# Altium integrated library Res-SMD_V2.IntLib: 2369 symbols (part 5 of 18)
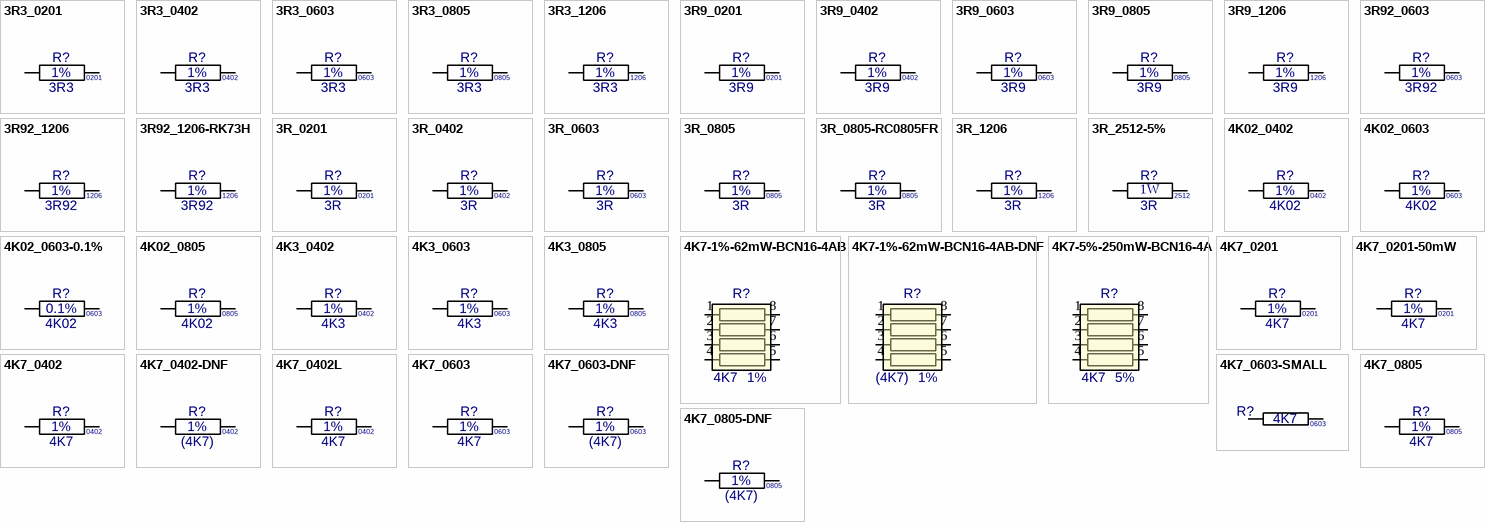
[diagram p63: symbols 3R3_0201 to 4K7_0805-DNF]

## 3R_0603
designator R?, comment value 3R  Tol: 1%  Text1: 0603  (hidden comment: 3R_R0603_1%)
Resistor Chip SMD; Manufacturer: Various; Part Number: 3R 0603 1%; Watt: 100mW; Package: RESC0603X60N; EDM-PN: *; Text2: *; Reutech PN: *; SAAB PN: *; DCE Part No: *
footprint RESC0603X60N (Chip Resistor, 0603, 2-Leads, Body 1.6x0.8mm, IPC Medium Density)
pins: 1, 2

## 3R_0805
designator R?, comment value 3R  Tol: 1%  Text1: 0805  (hidden comment: 3R_R0805_1%)
Resistor Chip SMD; Manufacturer: Various; Part Number: 3R 0805 1%; Watt: 125mW; Package: RESC0805X65N; EDM-PN: *; Text2: *; Reutech PN: *; SAAB PN: *; DCE Part No: *
footprint RESC0805X65N (Chip Resistor, 0805, 2-Leads, Body 2.0x1.3mm, IPC Medium Density)
pins: 1, 2

## 3R_0805-RC0805FR
designator R?, comment value 3R  Tol: 1%  Text1: 0805  (hidden comment: 3R_R0805_1%)
Resistor Chip Moisture Resistant Thick Film; Manufacturer: Yageo; Part Number: RC0805FR-073RL; Watt: 125mW; Package: RESC0805X65N; EDM-PN: *; Text2: *; Reutech PN: *; SAAB PN: *; DCE Part No: *
footprint RESC0805X65N (Chip Resistor, 0805, 2-Leads, Body 2.0x1.3mm, IPC Medium Density)
pins: 1, 2

## 3R_1206
designator R?, comment value 3R  Tol: 1%  Text1: 1206  (hidden comment: 3R_R1206_1%)
Resistor Chip SMD; Manufacturer: Various; Part Number: 3R 1206 1%; Watt: 250mW; Reutech PN: 5905-CR-8033; Package: RESC1206X71N; EDM-PN: *; Text2: *; SAAB PN: *; DCE Part No: *
footprint RESC1206X71N (Chip Resistor, 1206, 2-Leads, Body 3.2x1.6mm, IPC Medium Density)
pins: 1, 2

## 3R_2512-5%
designator R?, comment value 3R  Watt: 1W  Text1: 2512  (hidden comment: 3R_R2512_5%)
Resistor Chip SMD; Manufacturer: Various; Part Number: 3R 2512 5%; Tol: 5%; Package: RESC2512X71N; EDM-PN: *; Text2: *; Reutech PN: 5905-91-9003; SAAB PN: *; DCE Part No: *
footprint RESC2512X71N (Chip Resistor, 2512, 2-Leads, Body 6.3x3.2mm, IPC Medium Density)
pins: 1, 2

## 4K02_0402
designator R?, comment value 4K02  Tol: 1%  Text1: 0402  (hidden comment: 4K02_R0402_1%)
Resistor Chip SMD; Manufacturer: Various; Part Number: 4K02 0402 1%; Watt: 63mW; Package: RESC0402X40N; EDM-PN: *; Text2: *; Reutech PN: *; SAAB PN: *; DCE Part No: *
footprint RESC0402X40N (Chip Resistor, 0402, 2-Leads, Body 1.1x0.5mm, IPC Medium Density)
pins: 1, 2

## 4K02_0603
designator R?, comment value 4K02  Tol: 1%  Text1: 0603  (hidden comment: 4K02_R0603_1%)
Resistor Chip SMD; Manufacturer: Various; Part Number: 4K02 0603 1%; Watt: 100mW; Package: RESC0603X60N; EDM-PN: *; Text2: *; Reutech PN: *; SAAB PN: *; DCE Part No: *
footprint RESC0603X60N (Chip Resistor, 0603, 2-Leads, Body 1.6x0.8mm, IPC Medium Density)
pins: 1, 2

## 4K02_0603-0.1%
designator R?, comment value 4K02  Tol: 0.1%  Text1: 0603  (hidden comment: 4K02_R0603_0.1%)
Resistor Chip SMD; Manufacturer: Various; Part Number: 4K02 0603 0.1%; Watt: 125mW; Reutech PN: 5905-CR-0009; Package: RESC0603X60N; EDM-PN: *; Text2: *; SAAB PN: *; DCE Part No: *
footprint RESC0603X60N (Chip Resistor, 0603, 2-Leads, Body 1.6x0.8mm, IPC Medium Density)
pins: 1, 2

## 4K02_0805
designator R?, comment value 4K02  Tol: 1%  Text1: 0805  (hidden comment: 4K02_R0805_1%)
Resistor Chip SMD; Manufacturer: Various; Part Number: 4K02 0805 1%; Watt: 125mW; Package: RESC0805X65N; EDM-PN: *; Text2: *; Reutech PN: *; SAAB PN: *; DCE Part No: *
footprint RESC0805X65N (Chip Resistor, 0805, 2-Leads, Body 2.0x1.3mm, IPC Medium Density)
pins: 1, 2

## 4K3_0402
designator R?, comment value 4K3  Tol: 1%  Text1: 0402  (hidden comment: 4K3_R0402_1%)
Resistor Chip SMD; Manufacturer: Various; Part Number: 4K3 0402 1%; Watt: 63mW; Package: RESC0402X40N; EDM-PN: *; Text2: *; Reutech PN: *; SAAB PN: *; DCE Part No: *
footprint RESC0402X40N (Chip Resistor, 0402, 2-Leads, Body 1.1x0.5mm, IPC Medium Density)
pins: 1, 2

## 4K3_0603
designator R?, comment value 4K3  Tol: 1%  Text1: 0603  (hidden comment: 4K3_R0603_1%)
Resistor Chip SMD; Manufacturer: Various; Part Number: 4K3 0603 1%; Watt: 100mW; Package: RESC0603X60N; EDM-PN: *; Text2: *; Reutech PN: 5905-93-4301; SAAB PN: *; DCE Part No: *
footprint RESC0603X60N (Chip Resistor, 0603, 2-Leads, Body 1.6x0.8mm, IPC Medium Density)
pins: 1, 2

## 4K3_0805
designator R?, comment value 4K3  Tol: 1%  Text1: 0805  (hidden comment: 4K3_R0805_1%)
Resistor Chip SMD; Manufacturer: Various; Part Number: 4K3 0805 1%; Watt: 125mW; Package: RESC0805X65N; EDM-PN: *; Text2: *; Reutech PN: *; SAAB PN: *; DCE Part No: *
footprint RESC0805X65N (Chip Resistor, 0805, 2-Leads, Body 2.0x1.3mm, IPC Medium Density)
pins: 1, 2

## 4K7-1%-62mW-BCN16-4AB
designator R?, comment value 4K7  Tol: 1%  (hidden comment: 4K7-1%-62mW-BCN16-4AB-H)
Resistor Chip Array; Manufacturer: Bi Tech; Part Number: BCN164ABI-472F; Watt: 62mW; Package: BCN16-4AB; EDM-PN: *; Text2: *; Text1: *; Reutech PN: *; SAAB PN: *; DCE Part No: *
footprint BCN16-4AB (BCN 16 4 AB 1.6x3.2mm)
pins: 1, 2, 3, 4, 5, 6, 7, 8

## 4K7-1%-62mW-BCN16-4AB-DNF
designator R?, comment value (4K7)  Tol: 1%  (hidden comment: 4K7-1%-62mW-BCN16-4AB-H-DNF)
Resistor Chip Array - Do not Fit; Manufacturer: Bi Tech; Part Number: DNF - BCN164ABI-472F; Watt: 62mW; Package: BCN16-4AB; EDM-PN: *; Text2: *; Text1: *; Reutech PN: *; SAAB PN: *; DCE Part No: *
footprint BCN16-4AB (BCN 16 4 AB 1.6x3.2mm)
pins: 1, 2, 3, 4, 5, 6, 7, 8

## 4K7-5%-250mW-BCN16-4A
designator R?, comment value 4K7  Tol: 5%  (hidden comment: BCN164A472J7)
Resistor Chip Array; Manufacturer: Bi Tech; Watt: 250mW; Part Number: BCN164A472J7; Package: BCN16-4A; EDM-PN: *; Text2: *; Text1: *; Reutech PN: *; SAAB PN: *; DCE Part No: *
footprint BCN16-4A (Res Network 1.6x3.2mm)
pins: 1, 2, 3, 4, 5, 6, 7, 8

## 4K7_0201
designator R?, comment value 4K7  Tol: 1%  Text1: 0201  (hidden comment: 4K7_R0201_1%)
Resistor Chip SMD; Manufacturer: Various; Part Number: 4K7 0201 1%; Watt: 31mW; Package: RESC0201X33N; EDM-PN: *; Text2: *; Reutech PN: *; SAAB PN: *; DCE Part No: *
footprint RESC0201X33N (Chip Resistor, 0201, 2-Leads, Body 0.6x0.3mm, IPC Medium Density)
pins: 1, 2

## 4K7_0201-50mW
designator R?, comment value 4K7  Tol: 1%  Text1: 0201  (hidden comment: 4K7_R0201_1% 50mW)
Resistor Chip SMD; Manufacturer: Various; Part Number: 4K7 0201 1% 50mW; Watt: 50mW; Package: RESC0201X33N; EDM-PN: *; Text2: *; Reutech PN: *; SAAB PN: *; DCE Part No: *
footprint RESC0201X33N (Chip Resistor, 0201, 2-Leads, Body 0.6x0.3mm, IPC Medium Density)
pins: 1, 2

## 4K7_0402
designator R?, comment value 4K7  Tol: 1%  Text1: 0402  (hidden comment: 4K7_R0402_1%)
Resistor Chip SMD; Manufacturer: Various; Part Number: 4K7 0402 1%; DCE Part No: 7401; Watt: 63mW; EDM-PN: RES662; Package: RESC0402X40N; Text2: *; Reutech PN: 5905-92-4701; SAAB PN: *
footprint RESC0402X40N (Chip Resistor, 0402, 2-Leads, Body 1.1x0.5mm, IPC Medium Density)
pins: 1, 2

## 4K7_0402-DNF
designator R?, comment value (4K7)  Tol: 1%  Text1: 0402  (hidden comment: 4K7_R0402_1%-DNF)
Resistor Chip SMD - Do not Fit; Manufacturer: Various; Part Number: DNF - 4K7 0402 1%; Watt: 63mW; EDM-PN: RES662; Package: RESC0402X40N; Text2: *; Reutech PN: 5905-92-4701; SAAB PN: *; DCE Part No: *
footprint RESC0402X40N (Chip Resistor, 0402, 2-Leads, Body 1.1x0.5mm, IPC Medium Density)
pins: 1, 2

## 4K7_0402L
designator R?, comment value 4K7  Tol: 1%  Text1: 0402  (hidden comment: 4K7_R0402_1%)
Resistor Chip SMD; Manufacturer: Various; Part Number: 4K7 0402 1%; DCE Part No: 7401; Watt: 63mW; EDM-PN: RES662; Package: RESC0402X40L; Text2: *; Reutech PN: 5905-92-4701; SAAB PN: *
footprint RESC0402X40L (Chip Resistor, 0402, 2-Leads, Body 1.1x0.5mm, IPC High Density)
pins: 1, 2

## 4K7_0603
designator R?, comment value 4K7  Tol: 1%  Text1: 0603  (hidden comment: 4K7_R0603_1%)
Resistor Chip SMD; Manufacturer: Various; Part Number: 4K7 0603 1%; Watt: 100mW; EDM-PN: RES129; Package: RESC0603X60N; Text2: *; Reutech PN: 5905-93-4701; SAAB PN: *; DCE Part No: *
footprint RESC0603X60N (Chip Resistor, 0603, 2-Leads, Body 1.6x0.8mm, IPC Medium Density)
pins: 1, 2

## 4K7_0603-DNF
designator R?, comment value (4K7)  Tol: 1%  Text1: 0603  (hidden comment: 4K7_R0603_1%-DNF)
Resistor Chip SMD - Do not Fit; Manufacturer: Various; Part Number: DNF - 4K7 0603 1%; Watt: 100mW; Package: RESC0603X60N; EDM-PN: *; Text2: *; Reutech PN: 5905-93-4701; SAAB PN: *; DCE Part No: *
footprint RESC0603X60N (Chip Resistor, 0603, 2-Leads, Body 1.6x0.8mm, IPC Medium Density)
pins: 1, 2

## 4K7_0603-SMALL
designator R?, comment value 4K7  Text1: 0603  (hidden comment: 4K7_R0603_1%)
Resistor Chip SMD; Manufacturer: Various; Part Number: 4K7 0603 1%; Watt: 100mW; Tol: 1%; Package: RESC0603X60N; EDM-PN: *; Text2: *; Reutech PN: *; SAAB PN: *; DCE Part No: *
footprint RESC0603X60N (Chip Resistor, 0603, 2-Leads, Body 1.6x0.8mm, IPC Medium Density)
pins: 1, 2

## 4K7_0805
designator R?, comment value 4K7  Tol: 1%  Text1: 0805  (hidden comment: 4K7_R0805_1%)
Resistor Chip SMD; Manufacturer: Various; Part Number: 4K7 0805 1%; Watt: 125mW; EDM-PN: RES92; SAAB PN: 1ACF00196AEA; Package: RESC0805X65N; Text2: *; Reutech PN: *; DCE Part No: *
footprint RESC0805X65N (Chip Resistor, 0805, 2-Leads, Body 2.0x1.3mm, IPC Medium Density)
pins: 1, 2

## 4K7_0805-DNF
designator R?, comment value (4K7)  Tol: 1%  Text1: 0805  (hidden comment: 4K7[NEQ]_R0805_1%)
Resistor Chip SMD - Do not Fit; Manufacturer: Various; Part Number: DNF 4K7 0805 1%; Watt: 125mW; Package: RESC0805X65N; EDM-PN: *; Text2: *; Reutech PN: *; SAAB PN: *; DCE Part No: *
footprint RESC0805X65N (Chip Resistor, 0805, 2-Leads, Body 2.0x1.3mm, IPC Medium Density)
pins: 1, 2

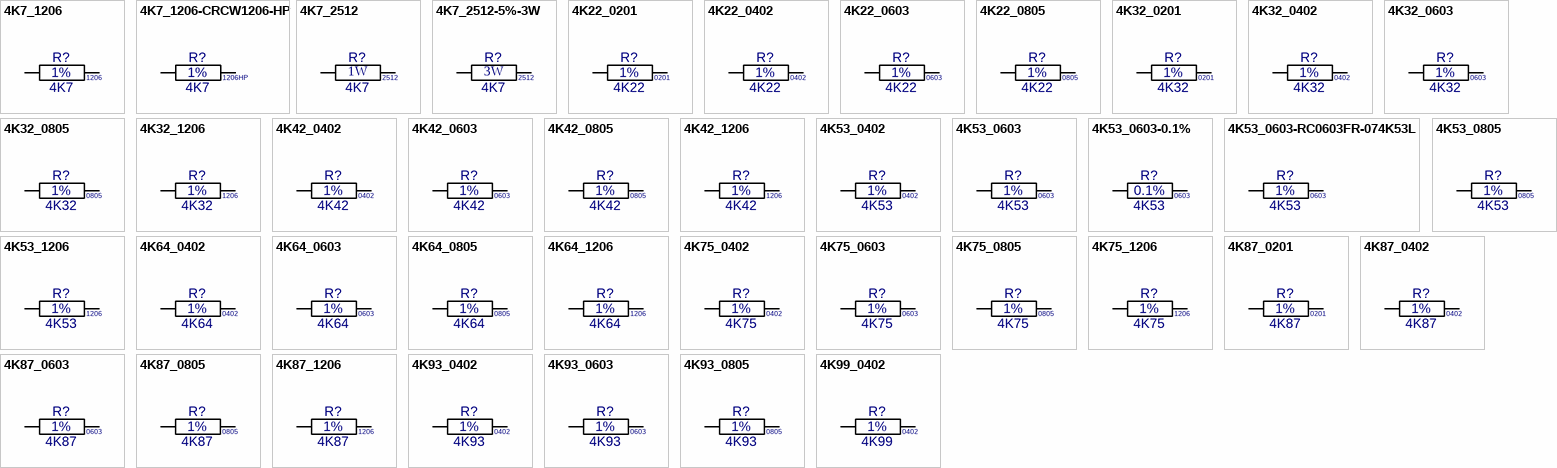
[diagram p14: symbols 4K7_1206 to 4K99_0402]

## 4K7_1206
designator R?, comment value 4K7  Tol: 1%  Text1: 1206  (hidden comment: 4K7_R1206_1%)
Resistor Chip SMD; Manufacturer: Various; Part Number: 4K7 1206 1%; Watt: 250mW; Package: RESC1206X71N; EDM-PN: *; Text2: *; Reutech PN: 5905-97-4701; SAAB PN: *; DCE Part No: *
footprint RESC1206X71N (Chip Resistor, 1206, 2-Leads, Body 3.2x1.6mm, IPC Medium Density)
pins: 1, 2

## 4K7_1206-CRCW1206-HP
designator R?, comment value 4K7  Tol: 1%  Text1: 1206HP  (hidden comment: 4K7_R1206_1%-CRCW1206-HP)
Resistor Chip Pulse Proof High Power Thick Film; Manufacturer: Vishay; Part Number: CRCW12064R70FKEAHP; Watt: 500mW; Package: CRCW1206-HP; EDM-PN: *; Text2: *; Reutech PN: *; SAAB PN: *; DCE Part No: *
footprint CRCW1206-HP (CCRCW1206-HP 3.2x1.6mm, IPC Medium Density)
pins: 1, 2

## 4K7_2512
designator R?, comment value 4K7  Watt: 1W  Text1: 2512  (hidden comment: 4K7_R2512_1%)
Resistor Chip SMD; Manufacturer: Various; Part Number: 4K7 2512 1%; Tol: 1%; Package: RESC2512X71N; EDM-PN: *; Text2: *; Reutech PN: *; SAAB PN: *; DCE Part No: *
footprint RESC2512X71N (Chip Resistor, 2512, 2-Leads, Body 6.3x3.2mm, IPC Medium Density)
pins: 1, 2

## 4K7_2512-5%-3W
designator R?, comment value 4K7  Watt: 3W  Text1: 2512  (hidden comment: 4K7_2512_5%-3W)
Resistor Chip SMD  Thick Film; Manufacturer: TE Connectivity; Part Number: 35224K7JT; Tol: 5%; Package: RESC2512X71N; EDM-PN: *; Text2: *; Reutech PN: *; SAAB PN: *; DCE Part No: *
footprint RESC2512X71N (Chip Resistor, 2512, 2-Leads, Body 6.3x3.2mm, IPC Medium Density)
pins: 1, 2

## 4K22_0201
designator R?, comment value 4K22  Tol: 1%  Text1: 0201  (hidden comment: 4K22_R0201_1%)
Resistor Chip SMD; Manufacturer: Various; Part Number: 4K22 0201 1%; Watt: 31mW; Package: RESC0201X33N; EDM-PN: *; Text2: *; Reutech PN: *; SAAB PN: *; DCE Part No: *
footprint RESC0201X33N (Chip Resistor, 0201, 2-Leads, Body 0.6x0.3mm, IPC Medium Density)
pins: 1, 2

## 4K22_0402
designator R?, comment value 4K22  Tol: 1%  Text1: 0402  (hidden comment: 4K22_R0402_1%)
Resistor Chip SMD; Manufacturer: Various; Part Number: 4K22 0402 1%; Watt: 63mW; EDM-PN: RES1579; Package: RESC0402X40N; Text2: *; Reutech PN: *; SAAB PN: *; DCE Part No: *
footprint RESC0402X40N (Chip Resistor, 0402, 2-Leads, Body 1.1x0.5mm, IPC Medium Density)
pins: 1, 2

## 4K22_0603
designator R?, comment value 4K22  Tol: 1%  Text1: 0603  (hidden comment: 4K22_R0603_1%)
Resistor Chip SMD; Manufacturer: Various; Part Number: 4K22 0603 1%; Watt: 100mW; EDM-PN: RES1398; Package: RESC0603X60N; Text2: *; Reutech PN: *; SAAB PN: *; DCE Part No: *
footprint RESC0603X60N (Chip Resistor, 0603, 2-Leads, Body 1.6x0.8mm, IPC Medium Density)
pins: 1, 2

## 4K22_0805
designator R?, comment value 4K22  Tol: 1%  Text1: 0805  (hidden comment: 4K22_R0805_1%)
Resistor Chip SMD; Manufacturer: Various; Part Number: 4K22 0805 1%; Watt: 125mW; Package: RESC0805X65N; EDM-PN: *; Text2: *; Reutech PN: *; SAAB PN: *; DCE Part No: *
footprint RESC0805X65N (Chip Resistor, 0805, 2-Leads, Body 2.0x1.3mm, IPC Medium Density)
pins: 1, 2

## 4K32_0201
designator R?, comment value 4K32  Tol: 1%  Text1: 0201  (hidden comment: 4K32_R0201_1%)
Resistor Chip SMD; Manufacturer: Various; Part Number: 4K32 0201 1%; Watt: 31mW; Package: RESC0201X33N; EDM-PN: *; Text2: *; Reutech PN: *; SAAB PN: *; DCE Part No: *
footprint RESC0201X33N (Chip Resistor, 0201, 2-Leads, Body 0.6x0.3mm, IPC Medium Density)
pins: 1, 2

## 4K32_0402
designator R?, comment value 4K32  Tol: 1%  Text1: 0402  (hidden comment: 4K32_R0402_1%)
Resistor Chip SMD; Manufacturer: Various; Part Number: 4K32 0402 1%; Watt: 63mW; Package: RESC0402X40N; EDM-PN: *; Text2: *; Reutech PN: *; SAAB PN: *; DCE Part No: *
footprint RESC0402X40N (Chip Resistor, 0402, 2-Leads, Body 1.1x0.5mm, IPC Medium Density)
pins: 1, 2

## 4K32_0603
designator R?, comment value 4K32  Tol: 1%  Text1: 0603  (hidden comment: 4K32_R0603_1%)
Resistor Chip SMD; Manufacturer: Various; Part Number: 4K32 0603 1%; Watt: 100mW; Package: RESC0603X60N; EDM-PN: *; Text2: *; Reutech PN: *; SAAB PN: *; DCE Part No: *
footprint RESC0603X60N (Chip Resistor, 0603, 2-Leads, Body 1.6x0.8mm, IPC Medium Density)
pins: 1, 2

## 4K32_0805
designator R?, comment value 4K32  Tol: 1%  Text1: 0805  (hidden comment: 4K32_R0805_1%)
Resistor Chip SMD; Manufacturer: Various; Part Number: 4K32 0805 1%; Watt: 125mW; Package: RESC0805X65N; EDM-PN: *; Text2: *; Reutech PN: *; SAAB PN: *; DCE Part No: *
footprint RESC0805X65N (Chip Resistor, 0805, 2-Leads, Body 2.0x1.3mm, IPC Medium Density)
pins: 1, 2

## 4K32_1206
designator R?, comment value 4K32  Tol: 1%  Text1: 1206  (hidden comment: 4K32_R1206_1%)
Resistor Chip SMD; Manufacturer: Various; Part Number: 4K32 1206 1%; Watt: 250mW; Package: RESC1206X71N; EDM-PN: *; Text2: *; Reutech PN: *; SAAB PN: *; DCE Part No: *
footprint RESC1206X71N (Chip Resistor, 1206, 2-Leads, Body 3.2x1.6mm, IPC Medium Density)
pins: 1, 2

## 4K42_0402
designator R?, comment value 4K42  Tol: 1%  Text1: 0402  (hidden comment: 4K42_R0402_1%)
Resistor Chip SMD; Manufacturer: Various; Part Number: 4K42 0402 1%; Watt: 63mW; Package: RESC0402X40N; EDM-PN: *; Text2: *; Reutech PN: *; SAAB PN: *; DCE Part No: *
footprint RESC0402X40N (Chip Resistor, 0402, 2-Leads, Body 1.1x0.5mm, IPC Medium Density)
pins: 1, 2

## 4K42_0603
designator R?, comment value 4K42  Tol: 1%  Text1: 0603  (hidden comment: 4K42_R0603_1%)
Resistor Chip SMD; Manufacturer: Various; Part Number: 4K42 0603 1%; Watt: 100mW; Package: RESC0603X60N; EDM-PN: *; Text2: *; Reutech PN: *; SAAB PN: *; DCE Part No: *
footprint RESC0603X60N (Chip Resistor, 0603, 2-Leads, Body 1.6x0.8mm, IPC Medium Density)
pins: 1, 2

## 4K42_0805
designator R?, comment value 4K42  Tol: 1%  Text1: 0805  (hidden comment: 4K42_R0805_1%)
Resistor Chip SMD; Manufacturer: Various; Part Number: 4K42 0805 1%; Watt: 125mW; Package: RESC0805X65N; EDM-PN: *; Text2: *; Reutech PN: *; SAAB PN: *; DCE Part No: *
footprint RESC0805X65N (Chip Resistor, 0805, 2-Leads, Body 2.0x1.3mm, IPC Medium Density)
pins: 1, 2

## 4K42_1206
designator R?, comment Tol: 1%  Text1: 1206  (hidden comment: 4K42)
Resistor Chip SMD; Manufacturer: Various; Part Number: 4K42 1206 1%; Watt: 250mW; Package: RESC1206X71N; EDM-PN: *; Text2: *; Reutech PN: *; SAAB PN: *; Value: 4K42; DCE Part No: *
footprint RESC1206X71N (Chip Resistor, 1206, 2-Leads, Body 3.2x1.6mm, IPC Medium Density)
pins: 1, 2

## 4K53_0402
designator R?, comment value 4K53  Tol: 1%  Text1: 0402  (hidden comment: 4K53_R0402_1%)
Resistor Chip SMD; Manufacturer: Various; Part Number: 4K53 0402 1%; Watt: 63mW; Package: RESC0402X40N; EDM-PN: *; Text2: *; Reutech PN: *; SAAB PN: *; DCE Part No: *
footprint RESC0402X40N (Chip Resistor, 0402, 2-Leads, Body 1.1x0.5mm, IPC Medium Density)
pins: 1, 2

## 4K53_0603
designator R?, comment value 4K53  Tol: 1%  Text1: 0603  (hidden comment: 4K53_R0603_1%)
Resistor Chip SMD; Manufacturer: Various; Part Number: 4K53 0603 1%; Watt: 100mW; Package: RESC0603X60N; EDM-PN: *; Text2: *; Reutech PN: *; SAAB PN: *; DCE Part No: *
footprint RESC0603X60N (Chip Resistor, 0603, 2-Leads, Body 1.6x0.8mm, IPC Medium Density)
pins: 1, 2

## 4K53_0603-0.1%
designator R?, comment value 4K53  Tol: 0.1%  Text1: 0603  (hidden comment: 4K53_R0603_0.1%)
Resistor Chip SMD; Manufacturer: Various; Part Number: 4K53 0603 0.1%; Watt: 100mW; Package: RESC0603X60N; EDM-PN: *; Text2: *; Reutech PN: *; SAAB PN: *; DCE Part No: *
footprint RESC0603X60N (Chip Resistor, 0603, 2-Leads, Body 1.6x0.8mm, IPC Medium Density)
pins: 1, 2

## 4K53_0603-RC0603FR-074K53L
designator R?, comment value 4K53  Tol: 1%  Text1: 0603  (hidden comment: RC0603FR-074K53L)
Resistor Chip SMD; Manufacturer: Yageo; Watt: 100mW; Part Number: RC0603FR-074K53L; Package: RESC0603X60N; EDM-PN: *; Text2: *; Reutech PN: *; SAAB PN: *; DCE Part No: *
footprint RESC0603X60N (Chip Resistor, 0603, 2-Leads, Body 1.6x0.8mm, IPC Medium Density)
pins: 1, 2

## 4K53_0805
designator R?, comment value 4K53  Tol: 1%  Text1: 0805  (hidden comment: 4K53_R0805_1%)
Resistor Chip SMD; Manufacturer: Various; Part Number: 4K53 0805 1%; Watt: 125mW; Package: RESC0805X65N; EDM-PN: *; Text2: *; Reutech PN: *; SAAB PN: *; DCE Part No: *
footprint RESC0805X65N (Chip Resistor, 0805, 2-Leads, Body 2.0x1.3mm, IPC Medium Density)
pins: 1, 2

## 4K53_1206
designator R?, comment Tol: 1%  Text1: 1206  (hidden comment: 4K53)
Resistor Chip SMD; Manufacturer: Various; Part Number: 4K53 1206 1%; Watt: 250mW; Package: RESC1206X71N; EDM-PN: *; Text2: *; Reutech PN: *; SAAB PN: *; Value: 4K53; DCE Part No: *
footprint RESC1206X71N (Chip Resistor, 1206, 2-Leads, Body 3.2x1.6mm, IPC Medium Density)
pins: 1, 2

## 4K64_0402
designator R?, comment value 4K64  Tol: 1%  Text1: 0402  (hidden comment: 4K64_R0402_1%)
Resistor Chip SMD; Manufacturer: Various; Part Number: 4K64 0402 1%; Watt: 63mW; Package: RESC0402X40N; EDM-PN: *; Text2: *; Reutech PN: *; SAAB PN: *; DCE Part No: *
footprint RESC0402X40N (Chip Resistor, 0402, 2-Leads, Body 1.1x0.5mm, IPC Medium Density)
pins: 1, 2

## 4K64_0603
designator R?, comment value 4K64  Tol: 1%  Text1: 0603  (hidden comment: 4K64_R0603_1%)
Resistor Chip SMD; Manufacturer: Various; Part Number: 4K64 0603 1%; Watt: 100mW; Package: RESC0603X60N; EDM-PN: *; Text2: *; Reutech PN: *; SAAB PN: *; DCE Part No: *
footprint RESC0603X60N (Chip Resistor, 0603, 2-Leads, Body 1.6x0.8mm, IPC Medium Density)
pins: 1, 2

## 4K64_0805
designator R?, comment value 4K64  Tol: 1%  Text1: 0805  (hidden comment: 4K64_R0805_1%)
Resistor Chip SMD; Manufacturer: Various; Part Number: 4K64 0805 1%; Watt: 125mW; Package: RESC0805X65N; EDM-PN: *; Text2: *; Reutech PN: *; SAAB PN: *; DCE Part No: *
footprint RESC0805X65N (Chip Resistor, 0805, 2-Leads, Body 2.0x1.3mm, IPC Medium Density)
pins: 1, 2

## 4K64_1206
designator R?, comment value 4K64  Tol: 1%  Text1: 1206  (hidden comment: 4K64_R1206_1%)
Resistor Chip SMD; Manufacturer: Various; Part Number: 4K64 1206 1%; Watt: 250mW; Package: RESC1206X71N; EDM-PN: *; Text2: *; Reutech PN: *; SAAB PN: *; DCE Part No: *
footprint RESC1206X71N (Chip Resistor, 1206, 2-Leads, Body 3.2x1.6mm, IPC Medium Density)
pins: 1, 2

## 4K75_0402
designator R?, comment value 4K75  Tol: 1%  Text1: 0402  (hidden comment: 4K75_R0402_1%)
Resistor Chip SMD; Manufacturer: Various; Part Number: 4K75 0402 1%; Watt: 63mW; Package: RESC0402X40N; EDM-PN: *; Text2: *; Reutech PN: *; SAAB PN: *; DCE Part No: *
footprint RESC0402X40N (Chip Resistor, 0402, 2-Leads, Body 1.1x0.5mm, IPC Medium Density)
pins: 1, 2

## 4K75_0603
designator R?, comment value 4K75  Tol: 1%  Text1: 0603  (hidden comment: 4K75_R0603_1%)
Resistor Chip SMD; Manufacturer: Various; Part Number: 4K75 0603 1%; Watt: 100mW; Package: RESC0603X60N; EDM-PN: *; Text2: *; Reutech PN: *; SAAB PN: *; DCE Part No: *
footprint RESC0603X60N (Chip Resistor, 0603, 2-Leads, Body 1.6x0.8mm, IPC Medium Density)
pins: 1, 2

## 4K75_0805
designator R?, comment value 4K75  Tol: 1%  Text1: 0805  (hidden comment: 4K75_R0805_1%)
Resistor Chip SMD; Manufacturer: Various; Part Number: 4K75 0805 1%; Watt: 125mW; Package: RESC0805X65N; EDM-PN: *; Text2: *; Reutech PN: *; SAAB PN: *; DCE Part No: *
footprint RESC0805X65N (Chip Resistor, 0805, 2-Leads, Body 2.0x1.3mm, IPC Medium Density)
pins: 1, 2

## 4K75_1206
designator R?, comment value 4K75  Tol: 1%  Text1: 1206  (hidden comment: 4K75_R1206_1%)
Resistor Chip SMD; Manufacturer: Various; Part Number: 4K75 1206 1%; Watt: 250mW; Package: RESC1206X71N; EDM-PN: *; Text2: *; Reutech PN: *; SAAB PN: *; DCE Part No: *
footprint RESC1206X71N (Chip Resistor, 1206, 2-Leads, Body 3.2x1.6mm, IPC Medium Density)
pins: 1, 2

## 4K87_0201
designator R?, comment value 4K87  Tol: 1%  Text1: 0201  (hidden comment: 4K87_R0201_1%)
Resistor Chip SMD; Manufacturer: Various; Part Number: 4K87 0201 1%; Watt: 31mW; Package: RESC0201X33N; EDM-PN: *; Text2: *; Reutech PN: *; SAAB PN: *; DCE Part No: *
footprint RESC0201X33N (Chip Resistor, 0201, 2-Leads, Body 0.6x0.3mm, IPC Medium Density)
pins: 1, 2

## 4K87_0402
designator R?, comment value 4K87  Tol: 1%  Text1: 0402  (hidden comment: 4K87_R0402_1%)
Resistor Chip SMD; Manufacturer: Various; Part Number: 4K87 0402 1%; Watt: 63mW; Package: RESC0402X40N; EDM-PN: *; Text2: *; Reutech PN: *; SAAB PN: *; DCE Part No: *
footprint RESC0402X40N (Chip Resistor, 0402, 2-Leads, Body 1.1x0.5mm, IPC Medium Density)
pins: 1, 2

## 4K87_0603
designator R?, comment value 4K87  Tol: 1%  Text1: 0603  (hidden comment: 4K87_R0603_1%)
Resistor Chip SMD; Manufacturer: Various; Part Number: 4K87 0603 1%; Watt: 100mW; Package: RESC0603X60N; EDM-PN: *; Text2: *; Reutech PN: *; SAAB PN: *; DCE Part No: *
footprint RESC0603X60N (Chip Resistor, 0603, 2-Leads, Body 1.6x0.8mm, IPC Medium Density)
pins: 1, 2

## 4K87_0805
designator R?, comment value 4K87  Tol: 1%  Text1: 0805  (hidden comment: 4K87_R0805_1%)
Resistor Chip SMD; Manufacturer: Various; Part Number: 4K87 0805 1%; Watt: 125mW; Package: RESC0805X65N; EDM-PN: *; Text2: *; Reutech PN: *; SAAB PN: *; DCE Part No: *
footprint RESC0805X65N (Chip Resistor, 0805, 2-Leads, Body 2.0x1.3mm, IPC Medium Density)
pins: 1, 2

## 4K87_1206
designator R?, comment value 4K87  Tol: 1%  Text1: 1206  (hidden comment: 4K87_R1206_1%)
Resistor Chip SMD; Manufacturer: Various; Part Number: 4K871206 1%; Watt: 250mW; Package: RESC1206X71N; EDM-PN: *; Text2: *; Reutech PN: *; SAAB PN: *; DCE Part No: *
footprint RESC1206X71N (Chip Resistor, 1206, 2-Leads, Body 3.2x1.6mm, IPC Medium Density)
pins: 1, 2

## 4K93_0402
designator R?, comment value 4K93  Tol: 1%  Text1: 0402  (hidden comment: 4K93_R0402_1%)
Resistor Chip SMD; Manufacturer: Various; Part Number: 4K93 0402 1%; Watt: 63mW; Package: RESC0402X40N; EDM-PN: *; Text2: *; Reutech PN: *; SAAB PN: *; DCE Part No: *
footprint RESC0402X40N (Chip Resistor, 0402, 2-Leads, Body 1.1x0.5mm, IPC Medium Density)
pins: 1, 2

## 4K93_0603
designator R?, comment value 4K93  Tol: 1%  Text1: 0603  (hidden comment: 4K93_R0603)
Resistor Chip SMD; Manufacturer: Various; Part Number: 4K93 0603 1%; Watt: 100mW; Package: RESC0603X60N; EDM-PN: *; Text2: *; Reutech PN: *; SAAB PN: *; DCE Part No: *
footprint RESC0603X60N (Chip Resistor, 0603, 2-Leads, Body 1.6x0.8mm, IPC Medium Density)
pins: 1, 2

## 4K93_0805
designator R?, comment value 4K93  Tol: 1%  Text1: 0805  (hidden comment: 4K93_R0805_1%)
Resistor Chip SMD; Manufacturer: Various; Part Number: 4K93 0805 1%; Watt: 125mW; Package: RESC0805X65N; EDM-PN: *; Text2: *; Reutech PN: *; SAAB PN: *; DCE Part No: *
footprint RESC0805X65N (Chip Resistor, 0805, 2-Leads, Body 2.0x1.3mm, IPC Medium Density)
pins: 1, 2

## 4K99_0402
designator R?, comment value 4K99  Tol: 1%  Text1: 0402  (hidden comment: 4K99_R0402_1%)
Resistor Chip SMD; Manufacturer: Various; Part Number: 4K99 0402 1%; Watt: 63mW; EDM-PN: RES1563; Package: RESC0402X40N; Text2: *; Reutech PN: *; SAAB PN: *; DCE Part No: *
footprint RESC0402X40N (Chip Resistor, 0402, 2-Leads, Body 1.1x0.5mm, IPC Medium Density)
pins: 1, 2

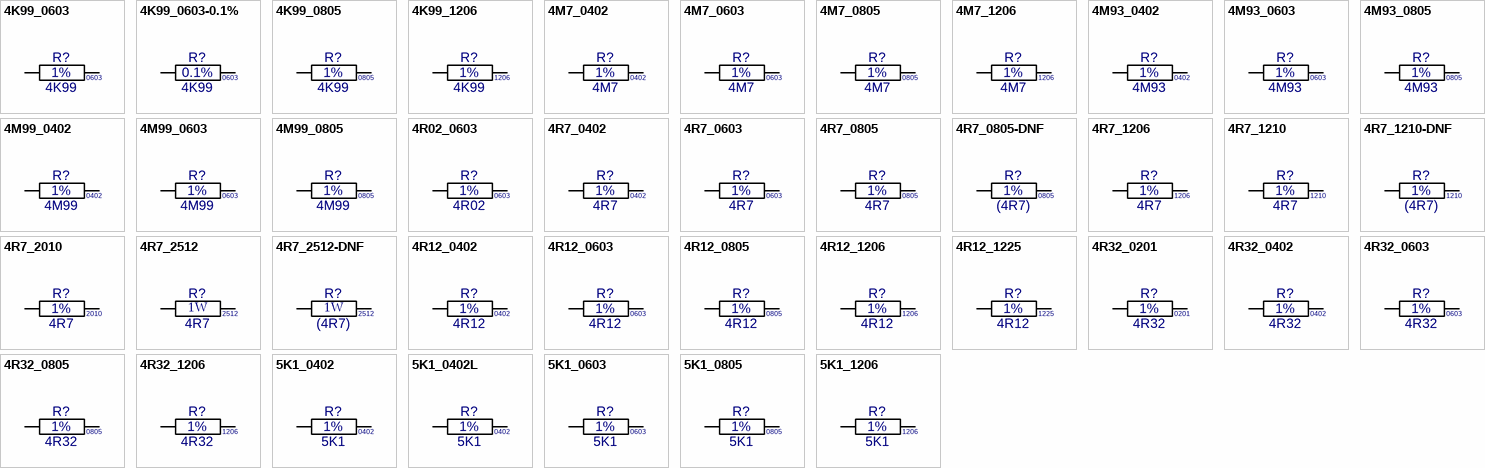
[diagram p15: symbols 4K99_0603 to 5K1_1206]

## 4K99_0603
designator R?, comment value 4K99  Tol: 1%  Text1: 0603  (hidden comment: 4K99_R0603)
Resistor Chip SMD; Manufacturer: Various; Part Number: 4K99 0603 1%; Watt: 100mW; EDM-PN: RES1316; Package: RESC0603X60N; Text2: *; Reutech PN: *; SAAB PN: *; DCE Part No: *
footprint RESC0603X60N (Chip Resistor, 0603, 2-Leads, Body 1.6x0.8mm, IPC Medium Density)
pins: 1, 2

## 4K99_0603-0.1%
designator R?, comment value 4K99  Tol: 0.1%  Text1: 0603  (hidden comment: 4K99_R0603_0.1%)
Resistor Chip SMD; Manufacturer: Various; Part Number: 4K99 0603 0.1%; Watt: 100mW; Package: RESC0603X60N; EDM-PN: *; Text2: *; Reutech PN: *; SAAB PN: *; DCE Part No: *
footprint RESC0603X60N (Chip Resistor, 0603, 2-Leads, Body 1.6x0.8mm, IPC Medium Density)
pins: 1, 2

## 4K99_0805
designator R?, comment value 4K99  Tol: 1%  Text1: 0805  (hidden comment: 4K99_R0805_1%)
Resistor Chip SMD; Manufacturer: Various; Part Number: 4K99 0805 1%; Watt: 125mW; Package: RESC0805X65N; EDM-PN: *; Text2: *; Reutech PN: *; SAAB PN: *; DCE Part No: *
footprint RESC0805X65N (Chip Resistor, 0805, 2-Leads, Body 2.0x1.3mm, IPC Medium Density)
pins: 1, 2

## 4K99_1206
designator R?, comment value 4K99  Tol: 1%  Text1: 1206  (hidden comment: 4K99_R1206_1%)
Resistor Chip SMD; Manufacturer: Various; Part Number: 4K99 1206 1%; Watt: 250mW; Package: RESC1206X71N; EDM-PN: *; Text2: *; Reutech PN: *; SAAB PN: *; DCE Part No: *
footprint RESC1206X71N (Chip Resistor, 1206, 2-Leads, Body 3.2x1.6mm, IPC Medium Density)
pins: 1, 2

## 4M7_0402
designator R?, comment value 4M7  Tol: 1%  Text1: 0402  (hidden comment: 4M7_R0402_1%)
Resistor Chip SMD; Manufacturer: Various; Part Number: 4M7 0402 1%; Watt: 63mW; Package: RESC0402X40N; EDM-PN: *; Text2: *; Reutech PN: *; SAAB PN: *; DCE Part No: *
footprint RESC0402X40N (Chip Resistor, 0402, 2-Leads, Body 1.1x0.5mm, IPC Medium Density)
pins: 1, 2

## 4M7_0603
designator R?, comment value 4M7  Tol: 1%  Text1: 0603  (hidden comment: 4M7_R0603_1%)
Resistor Chip SMD; Manufacturer: Various; Part Number: 4M7 0603 1%; Watt: 100mW; Package: RESC0603X60N; EDM-PN: *; Text2: *; Reutech PN: *; SAAB PN: *; DCE Part No: *
footprint RESC0603X60N (Chip Resistor, 0603, 2-Leads, Body 1.6x0.8mm, IPC Medium Density)
pins: 1, 2

## 4M7_0805
designator R?, comment value 4M7  Tol: 1%  Text1: 0805  (hidden comment: 4M7_R0805_1%)
Resistor Chip SMD; Manufacturer: Various; Part Number: 4M7 0805 1%; Watt: 125mW; Package: RESC0805X65N; EDM-PN: *; Text2: *; Reutech PN: *; SAAB PN: *; DCE Part No: *
footprint RESC0805X65N (Chip Resistor, 0805, 2-Leads, Body 2.0x1.3mm, IPC Medium Density)
pins: 1, 2

## 4M7_1206
designator R?, comment value 4M7  Tol: 1%  Text1: 1206  (hidden comment: 4M7_R1206_1%)
Resistor Chip SMD; Manufacturer: Various; Part Number: 4M7 1206 1%; Watt: 250mW; Package: RESC1206X71N; EDM-PN: *; Text2: *; Reutech PN: *; SAAB PN: *; DCE Part No: *
footprint RESC1206X71N (Chip Resistor, 1206, 2-Leads, Body 3.2x1.6mm, IPC Medium Density)
pins: 1, 2

## 4M93_0402
designator R?, comment value 4M93  Tol: 1%  Text1: 0402  (hidden comment: 4M93_R0402_1%)
Resistor Chip SMD; Manufacturer: Various; Part Number: 4M93 0402 1%; Watt: 63mW; Package: RESC0402X40N; EDM-PN: *; Text2: *; Reutech PN: *; SAAB PN: *; DCE Part No: *
footprint RESC0402X40N (Chip Resistor, 0402, 2-Leads, Body 1.1x0.5mm, IPC Medium Density)
pins: 1, 2

## 4M93_0603
designator R?, comment value 4M93  Tol: 1%  Text1: 0603  (hidden comment: 4M93_R0603)
Resistor Chip SMD; Manufacturer: Various; Part Number: 4M93 0603 1%; Watt: 100mW; Package: RESC0603X60N; EDM-PN: *; Text2: *; Reutech PN: *; SAAB PN: *; DCE Part No: *
footprint RESC0603X60N (Chip Resistor, 0603, 2-Leads, Body 1.6x0.8mm, IPC Medium Density)
pins: 1, 2

## 4M93_0805
designator R?, comment value 4M93  Tol: 1%  Text1: 0805  (hidden comment: 4M93_R0805_1%)
Resistor Chip SMD; Manufacturer: Various; Part Number: 4M93 0805 1%; Watt: 125mW; Package: RESC0805X65N; EDM-PN: *; Text2: *; Reutech PN: *; SAAB PN: *; DCE Part No: *
footprint RESC0805X65N (Chip Resistor, 0805, 2-Leads, Body 2.0x1.3mm, IPC Medium Density)
pins: 1, 2

## 4M99_0402
designator R?, comment value 4M99  Tol: 1%  Text1: 0402  (hidden comment: 4M99_R0402_1%)
Resistor Chip SMD; Manufacturer: Various; Part Number: 4M99 0402 1%; Watt: 63mW; Package: RESC0402X40N; EDM-PN: *; Text2: *; Reutech PN: *; SAAB PN: *; DCE Part No: *
footprint RESC0402X40N (Chip Resistor, 0402, 2-Leads, Body 1.1x0.5mm, IPC Medium Density)
pins: 1, 2

## 4M99_0603
designator R?, comment value 4M99  Tol: 1%  Text1: 0603  (hidden comment: 4M99_R0603)
Resistor Chip SMD; Manufacturer: Various; Part Number: 4M99 0603 1%; Watt: 100mW; Package: RESC0603X60N; EDM-PN: *; Text2: *; Reutech PN: *; SAAB PN: *; DCE Part No: *
footprint RESC0603X60N (Chip Resistor, 0603, 2-Leads, Body 1.6x0.8mm, IPC Medium Density)
pins: 1, 2

## 4M99_0805
designator R?, comment value 4M99  Tol: 1%  Text1: 0805  (hidden comment: 4M99_R0805_1%)
Resistor Chip SMD; Manufacturer: Various; Part Number: 4M99 0805 1%; Watt: 125mW; Package: RESC0805X65N; EDM-PN: *; Text2: *; Reutech PN: *; SAAB PN: *; DCE Part No: *
footprint RESC0805X65N (Chip Resistor, 0805, 2-Leads, Body 2.0x1.3mm, IPC Medium Density)
pins: 1, 2

## 4R02_0603
designator R?, comment value 4R02  Tol: 1%  Text1: 0603  (hidden comment: 4R02_R0603_1%)
Resistor Chip SMD; Manufacturer: Various; Part Number: 4R02 0603 1%; Watt: 100mW; Package: RESC0603X60N; EDM-PN: *; Text2: *; Reutech PN: *; SAAB PN: *; DCE Part No: *
footprint RESC0603X60N (Chip Resistor, 0603, 2-Leads, Body 1.6x0.8mm, IPC Medium Density)
pins: 1, 2

## 4R7_0402
designator R?, comment value 4R7  Tol: 1%  Text1: 0402  (hidden comment: 4R7_R0402_1%)
Resistor Chip SMD; Manufacturer: Various; Part Number: 4R7 0402 1%; Watt: 63mW; Package: RESC0402X40N; EDM-PN: *; Text2: *; Reutech PN: *; SAAB PN: *; DCE Part No: *
footprint RESC0402X40N (Chip Resistor, 0402, 2-Leads, Body 1.1x0.5mm, IPC Medium Density)
pins: 1, 2

## 4R7_0603
designator R?, comment value 4R7  Tol: 1%  Text1: 0603  (hidden comment: 4R7_R0603_1%)
Resistor Chip SMD; Manufacturer: Various; Part Number: 4R7 0603 1%; Watt: 100mW; Package: RESC0603X60N; EDM-PN: *; Text2: *; Reutech PN: *; SAAB PN: *; DCE Part No: *
footprint RESC0603X60N (Chip Resistor, 0603, 2-Leads, Body 1.6x0.8mm, IPC Medium Density)
pins: 1, 2

## 4R7_0805
designator R?, comment value 4R7  Tol: 1%  Text1: 0805  (hidden comment: 4R7_R0805_1%)
Resistor Chip SMD; Manufacturer: Various; Part Number: 4R7 0805 1%; Watt: 125mW; Package: RESC0805X65N; EDM-PN: *; Text2: *; Reutech PN: *; SAAB PN: *; DCE Part No: *
footprint RESC0805X65N (Chip Resistor, 0805, 2-Leads, Body 2.0x1.3mm, IPC Medium Density)
pins: 1, 2

## 4R7_0805-DNF
designator R?, comment value (4R7)  Tol: 1%  Text1: 0805  (hidden comment: 4R7_R0805_1%)
Resistor Chip SMD - Do not Fit; Manufacturer: Various; Part Number: DNF - 4R7 0805 1%; Watt: 125mW; Package: RESC0805X65N; EDM-PN: *; Text2: *; Reutech PN: *; SAAB PN: *; DCE Part No: *
footprint RESC0805X65N (Chip Resistor, 0805, 2-Leads, Body 2.0x1.3mm, IPC Medium Density)
pins: 1, 2

## 4R7_1206
designator R?, comment value 4R7  Tol: 1%  Text1: 1206  (hidden comment: 4R7_R1206_1%)
Resistor Chip SMD; Manufacturer: Various; Part Number: 4R7 1206 1%; Watt: 250mW; Reutech PN: 5905-CR-8047; Package: RESC1206X71N; EDM-PN: *; Text2: *; SAAB PN: *; DCE Part No: *
footprint RESC1206X71N (Chip Resistor, 1206, 2-Leads, Body 3.2x1.6mm, IPC Medium Density)
pins: 1, 2

## 4R7_1210
designator R?, comment value 4R7  Tol: 1%  Text1: 1210  (hidden comment: 4R7_R1210_1%)
Resistor Chip SMD; Manufacturer: Various; Part Number: 4R7 1210 1%; Watt: 500mW; Package: RESC1210X71N; EDM-PN: *; Text2: *; Reutech PN: *; SAAB PN: *; DCE Part No: *
footprint RESC1210X71N (Chip Resistor, 1210, 2-Leads, Body 3.2x2.5mm, IPC Medium Density)
pins: 1, 2

## 4R7_1210-DNF
designator R?, comment value (4R7)  Tol: 1%  Text1: 1210  (hidden comment: 4R7_R1210_1%-DNF)
Resistor Chip SMD - Do not Fit; Manufacturer: Various; Part Number: DNF - 4R7 1210 1%; Watt: 500mW; Package: RESC1210X71N; EDM-PN: *; Text2: *; Reutech PN: *; SAAB PN: *; DCE Part No: *
footprint RESC1210X71N (Chip Resistor, 1210, 2-Leads, Body 3.2x2.5mm, IPC Medium Density)
pins: 1, 2

## 4R7_2010
designator R?, comment value 4R7  Tol: 1%  Text1: 2010  (hidden comment: 4R7_R2010_1%)
Resistor Chip SMD; Manufacturer: Various; Part Number: 4R7 2010 1%; Watt: 500mW; Package: RESC2010X71N; EDM-PN: *; Text2: *; Reutech PN: *; SAAB PN: *; DCE Part No: *
footprint RESC2010X71N (Chip Resistor, 2010, 2-Leads, Body 5.0x2.5mm, IPC Medium Density)
pins: 1, 2

## 4R7_2512
designator R?, comment value 4R7  Watt: 1W  Text1: 2512  (hidden comment: 4R7_R2512_1%)
Resistor Chip SMD; Manufacturer: Various; Part Number: 4R7 2512 1%; Tol: 1%; Package: RESC2512X71N; EDM-PN: *; Text2: *; Reutech PN: *; SAAB PN: *; DCE Part No: *
footprint RESC2512X71N (Chip Resistor, 2512, 2-Leads, Body 6.3x3.2mm, IPC Medium Density)
pins: 1, 2

## 4R7_2512-DNF
designator R?, comment value (4R7)  Watt: 1W  Text1: 2512  (hidden comment: 4R7_R2512_1%-DNF)
Resistor Chip SMD - Do not Fit; Manufacturer: Various; Part Number: DNF - 4R7 2512 1%; Tol: 1%; Package: RESC2512X71N; EDM-PN: *; Text2: *; Reutech PN: *; SAAB PN: *; DCE Part No: *
footprint RESC2512X71N (Chip Resistor, 2512, 2-Leads, Body 6.3x3.2mm, IPC Medium Density)
pins: 1, 2

## 4R12_0402
designator R?, comment value 4R12  Tol: 1%  Text1: 0402  (hidden comment: 4R12_R0402_1%)
Resistor Chip SMD; Manufacturer: Various; Part Number: 4R12 0402 1%; Watt: 63mW; Package: RESC0402X40N; EDM-PN: *; Text2: *; Reutech PN: *; SAAB PN: *; DCE Part No: *
footprint RESC0402X40N (Chip Resistor, 0402, 2-Leads, Body 1.1x0.5mm, IPC Medium Density)
pins: 1, 2

## 4R12_0603
designator R?, comment value 4R12  Tol: 1%  Text1: 0603  (hidden comment: 4R12_R0603_1%)
Resistor Chip SMD; Manufacturer: Various; Part Number: 4R12 0603 1%; Watt: 100mW; Package: RESC0603X60N; EDM-PN: *; Text2: *; Reutech PN: *; SAAB PN: *; DCE Part No: *
footprint RESC0603X60N (Chip Resistor, 0603, 2-Leads, Body 1.6x0.8mm, IPC Medium Density)
pins: 1, 2

## 4R12_0805
designator R?, comment value 4R12  Tol: 1%  Text1: 0805  (hidden comment: 4R12_R0805_1%)
Resistor Chip SMD; Manufacturer: Various; Part Number: 4R12 0805 1%; Watt: 125mW; Package: RESC0805X65N; EDM-PN: *; Text2: *; Reutech PN: *; SAAB PN: *; DCE Part No: *
footprint RESC0805X65N (Chip Resistor, 0805, 2-Leads, Body 2.0x1.3mm, IPC Medium Density)
pins: 1, 2

## 4R12_1206
designator R?, comment value 4R12  Tol: 1%  Text1: 1206  (hidden comment: 4R12_R1206_1%)
Resistor Chip SMD; Manufacturer: Various; Part Number: 4R12 1206 1%; Watt: 250mW; Package: RESC1206X71N; EDM-PN: *; Text2: *; Reutech PN: *; SAAB PN: *; DCE Part No: *
footprint RESC1206X71N (Chip Resistor, 1206, 2-Leads, Body 3.2x1.6mm, IPC Medium Density)
pins: 1, 2

## 4R12_1225
designator R?, comment value 4R12  Tol: 1%  Text1: 1225  (hidden comment: 4R12_R1225_1%)
Resistor Chip Thick Film; Manufacturer: Various; Part Number: 4R12 1225 1%; Watt: 2W; Package: RESC1225N; EDM-PN: *; Text2: *; Reutech PN: *; SAAB PN: *; DCE Part No: *
footprint RESC1225N (Chip Resistor, 1225, 2-Leads, Body 3.2x6.3mm, IPC Medium Density)
pins: 1, 2

## 4R32_0201
designator R?, comment value 4R32  Tol: 1%  Text1: 0201  (hidden comment: 4R32_R0201_1%)
Resistor Chip SMD; Manufacturer: Various; Part Number: 4R32 0201 1%; Watt: 31mW; Package: RESC0201X33N; EDM-PN: *; Text2: *; Reutech PN: *; SAAB PN: *; DCE Part No: *
footprint RESC0201X33N (Chip Resistor, 0201, 2-Leads, Body 0.6x0.3mm, IPC Medium Density)
pins: 1, 2

## 4R32_0402
designator R?, comment value 4R32  Tol: 1%  Text1: 0402  (hidden comment: 4R32_R0402_1%)
Resistor Chip SMD; Manufacturer: Various; Part Number: 4R32 0402 1%; Watt: 63mW; Package: RESC0402X40N; EDM-PN: *; Text2: *; Reutech PN: *; SAAB PN: *; DCE Part No: *
footprint RESC0402X40N (Chip Resistor, 0402, 2-Leads, Body 1.1x0.5mm, IPC Medium Density)
pins: 1, 2

## 4R32_0603
designator R?, comment value 4R32  Tol: 1%  Text1: 0603  (hidden comment: 4R32_R0603_1%)
Resistor Chip SMD; Manufacturer: Various; Part Number: 4R32 0603 1%; Watt: 100mW; Package: RESC0603X60N; EDM-PN: *; Text2: *; Reutech PN: *; SAAB PN: *; DCE Part No: *
footprint RESC0603X60N (Chip Resistor, 0603, 2-Leads, Body 1.6x0.8mm, IPC Medium Density)
pins: 1, 2

## 4R32_0805
designator R?, comment value 4R32  Tol: 1%  Text1: 0805  (hidden comment: 4R32_R0805_1%)
Resistor Chip SMD; Manufacturer: Various; Part Number: 4R32 0805 1%; Watt: 125mW; Package: RESC0805X65N; EDM-PN: *; Text2: *; Reutech PN: *; SAAB PN: *; DCE Part No: *
footprint RESC0805X65N (Chip Resistor, 0805, 2-Leads, Body 2.0x1.3mm, IPC Medium Density)
pins: 1, 2

## 4R32_1206
designator R?, comment value 4R32  Tol: 1%  Text1: 1206  (hidden comment: 4R32_R1206_1%)
Resistor Chip SMD; Manufacturer: Various; Part Number: 4R32 1206 1%; Watt: 250mW; Package: RESC1206X71N; EDM-PN: *; Text2: *; Reutech PN: *; SAAB PN: *; DCE Part No: *
footprint RESC1206X71N (Chip Resistor, 1206, 2-Leads, Body 3.2x1.6mm, IPC Medium Density)
pins: 1, 2

## 5K1_0402
designator R?, comment value 5K1  Tol: 1%  Text1: 0402  (hidden comment: 5K1_R0402_1%)
Resistor Chip SMD; Manufacturer: Various; Part Number: 5K1 0402 1%; DCE Part No: 7826; Watt: 63mW; EDM-PN: RES1461; Package: RESC0402X40N; Text2: *; Reutech PN: *; SAAB PN: *
footprint RESC0402X40N (Chip Resistor, 0402, 2-Leads, Body 1.1x0.5mm, IPC Medium Density)
pins: 1, 2

## 5K1_0402L
designator R?, comment value 5K1  Tol: 1%  Text1: 0402  (hidden comment: 5K1_R0402_1%)
Resistor Chip SMD; Manufacturer: Various; Part Number: 5K1 0402 1%; DCE Part No: 7826; Watt: 63mW; EDM-PN: RES1461; Package: RESC0402X40L; Text2: *; Reutech PN: *; SAAB PN: *
footprint RESC0402X40L (Chip Resistor, 0402, 2-Leads, Body 1.1x0.5mm, IPC High Density)
pins: 1, 2

## 5K1_0603
designator R?, comment value 5K1  Tol: 1%  Text1: 0603  (hidden comment: 5K1_R0603_1%)
Resistor Chip SMD; Manufacturer: Various; Part Number: 5K1 0603 1%; Watt: 100mW; EDM-PN: RES1004; Package: RESC0603X60N; Text2: *; Reutech PN: *; SAAB PN: *; DCE Part No: *
footprint RESC0603X60N (Chip Resistor, 0603, 2-Leads, Body 1.6x0.8mm, IPC Medium Density)
pins: 1, 2

## 5K1_0805
designator R?, comment value 5K1  Tol: 1%  Text1: 0805  (hidden comment: 5K1_R0805_1%)
Resistor Chip SMD; Manufacturer: Various; Part Number: 5K1 0805 1%; Watt: 125mW; Package: RESC0805X65N; EDM-PN: *; Text2: *; Reutech PN: *; SAAB PN: *; DCE Part No: *
footprint RESC0805X65N (Chip Resistor, 0805, 2-Leads, Body 2.0x1.3mm, IPC Medium Density)
pins: 1, 2

## 5K1_1206
designator R?, comment value 5K1  Tol: 1%  Text1: 1206  (hidden comment: 5K1_R1206_1%)
Resistor Chip SMD; Manufacturer: Various; Part Number: 5K1 1206 1%; Watt: 250mW; Package: RESC1206X71N; EDM-PN: *; Text2: *; Reutech PN: 5905-97-5101; SAAB PN: *; DCE Part No: *
footprint RESC1206X71N (Chip Resistor, 1206, 2-Leads, Body 3.2x1.6mm, IPC Medium Density)
pins: 1, 2

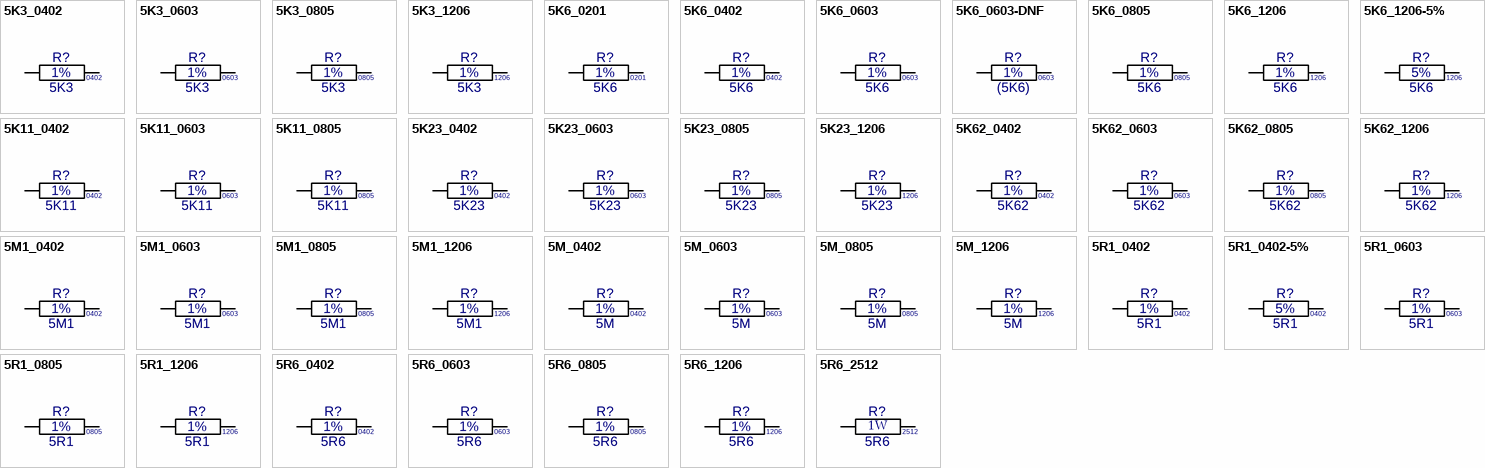
[diagram p16: symbols 5K3_0402 to 5R6_2512]

## 5K3_0402
designator R?, comment value 5K3  Tol: 1%  Text1: 0402  (hidden comment: 5K3_R0402_1%)
Resistor Chip SMD; Manufacturer: Various; Part Number: 5K3 0402 1%; Watt: 63mW; Package: RESC0402X40N; EDM-PN: *; Text2: *; Reutech PN: *; SAAB PN: *; DCE Part No: *
footprint RESC0402X40N (Chip Resistor, 0402, 2-Leads, Body 1.1x0.5mm, IPC Medium Density)
pins: 1, 2

## 5K3_0603
designator R?, comment value 5K3  Tol: 1%  Text1: 0603  (hidden comment: 5K3_R0603_1%)
Resistor Chip SMD; Manufacturer: Various; Part Number: 5K3 0603 1%; Watt: 100mW; Package: RESC0603X60N; EDM-PN: *; Text2: *; Reutech PN: *; SAAB PN: *; DCE Part No: *
footprint RESC0603X60N (Chip Resistor, 0603, 2-Leads, Body 1.6x0.8mm, IPC Medium Density)
pins: 1, 2

## 5K3_0805
designator R?, comment value 5K3  Tol: 1%  Text1: 0805  (hidden comment: 5K3_R0805_1%)
Resistor Chip SMD; Manufacturer: Various; Part Number: 5K3 0805 1%; Watt: 125mW; Package: RESC0805X65N; EDM-PN: *; Text2: *; Reutech PN: *; SAAB PN: *; DCE Part No: *
footprint RESC0805X65N (Chip Resistor, 0805, 2-Leads, Body 2.0x1.3mm, IPC Medium Density)
pins: 1, 2

## 5K3_1206
designator R?, comment value 5K3  Tol: 1%  Text1: 1206  (hidden comment: 5K3_R1206_1%)
Resistor Chip SMD; Manufacturer: Various; Part Number: 5K3 1206 1%; Watt: 250mW; Package: RESC1206X71N; EDM-PN: *; Text2: *; Reutech PN: *; SAAB PN: *; DCE Part No: *
footprint RESC1206X71N (Chip Resistor, 1206, 2-Leads, Body 3.2x1.6mm, IPC Medium Density)
pins: 1, 2

## 5K6_0201
designator R?, comment value 5K6  Tol: 1%  Text1: 0201  (hidden comment: 5K6_R0201_1%)
Resistor Chip SMD; Manufacturer: Various; Part Number: 5K6 0201 1%; Watt: 31mW; Package: RESC0201X33N; EDM-PN: *; Text2: *; Reutech PN: *; SAAB PN: *; DCE Part No: *
footprint RESC0201X33N (Chip Resistor, 0201, 2-Leads, Body 0.6x0.3mm, IPC Medium Density)
pins: 1, 2

## 5K6_0402
designator R?, comment value 5K6  Tol: 1%  Text1: 0402  (hidden comment: 5K6_R0402_1%)
Resistor Chip SMD; Manufacturer: Various; Part Number: 5K6 0402 1%; Watt: 63mW; EDM-PN: RES1330; Package: RESC0402X40N; Text2: *; Reutech PN: *; SAAB PN: *; DCE Part No: *
footprint RESC0402X40N (Chip Resistor, 0402, 2-Leads, Body 1.1x0.5mm, IPC Medium Density)
pins: 1, 2

## 5K6_0603
designator R?, comment value 5K6  Tol: 1%  Text1: 0603  (hidden comment: 5K6_R0603_1%)
Resistor Chip SMD; Manufacturer: Various; Part Number: 5K6 0603 1%; Watt: 100mW; EDM-PN: RES130; Package: RESC0603X60N; Text2: *; Reutech PN: *; SAAB PN: *; DCE Part No: *
footprint RESC0603X60N (Chip Resistor, 0603, 2-Leads, Body 1.6x0.8mm, IPC Medium Density)
pins: 1, 2

## 5K6_0603-DNF
designator R?, comment value (5K6)  Tol: 1%  Text1: 0603  (hidden comment: 5K6_R0603_1%)
Resistor Chip SMD - Do not Fit; Manufacturer: Various; Part Number: DNF - 5K6 0603 1%; Watt: 100mW; Package: RESC0603X60N; EDM-PN: *; Text2: *; Reutech PN: *; SAAB PN: *; DCE Part No: *
footprint RESC0603X60N (Chip Resistor, 0603, 2-Leads, Body 1.6x0.8mm, IPC Medium Density)
pins: 1, 2

## 5K6_0805
designator R?, comment value 5K6  Tol: 1%  Text1: 0805  (hidden comment: 5K6_R0805_1%)
Resistor Chip SMD; Manufacturer: Various; Part Number: 5K6 0805 1%; Watt: 125mW; EDM-PN: RES66; SAAB PN: 1ACF00197AEA; Package: RESC0805X65N; Text2: *; Reutech PN: *; DCE Part No: *
footprint RESC0805X65N (Chip Resistor, 0805, 2-Leads, Body 2.0x1.3mm, IPC Medium Density)
pins: 1, 2

## 5K6_1206
designator R?, comment value 5K6  Tol: 1%  Text1: 1206  (hidden comment: 5K6_R1206_1%)
Resistor Chip SMD; Manufacturer: Various; Part Number: 5K6 1206 1%; Watt: 250mW; Package: RESC1206X71N; EDM-PN: *; Text2: *; Reutech PN: 5905-97-5601; SAAB PN: *; DCE Part No: *
footprint RESC1206X71N (Chip Resistor, 1206, 2-Leads, Body 3.2x1.6mm, IPC Medium Density)
pins: 1, 2

## 5K6_1206-5%
designator R?, comment value 5K6  Tol: 5%  Text1: 1206  (hidden comment: 5K6_R1206_5%)
Resistor Chip SMD; Manufacturer: Various; Part Number: 5K6 1206 5%; Watt: 250mW; Package: RESC1206X71N; EDM-PN: *; Text2: *; Reutech PN: 5905-97-0562; SAAB PN: *; DCE Part No: *
footprint RESC1206X71N (Chip Resistor, 1206, 2-Leads, Body 3.2x1.6mm, IPC Medium Density)
pins: 1, 2

## 5K11_0402
designator R?, comment value 5K11  Tol: 1%  Text1: 0402  (hidden comment: 5K11_R0402_1%)
Resistor Chip SMD; Manufacturer: Various; Part Number: 5K11 0402 1%; Watt: 63mW; Package: RESC0402X40N; EDM-PN: *; Text2: *; Reutech PN: *; SAAB PN: *; DCE Part No: *
footprint RESC0402X40N (Chip Resistor, 0402, 2-Leads, Body 1.1x0.5mm, IPC Medium Density)
pins: 1, 2

## 5K11_0603
designator R?, comment value 5K11  Tol: 1%  Text1: 0603  (hidden comment: 5K11_R0603_1%)
Resistor Chip SMD; Manufacturer: Various; Part Number: 5K11 0603 1%; Watt: 100mW; Package: RESC0603X60N; EDM-PN: *; Text2: *; Reutech PN: *; SAAB PN: *; DCE Part No: *
footprint RESC0603X60N (Chip Resistor, 0603, 2-Leads, Body 1.6x0.8mm, IPC Medium Density)
pins: 1, 2

## 5K11_0805
designator R?, comment value 5K11  Tol: 1%  Text1: 0805  (hidden comment: 5K11_R0805_1%)
Resistor Chip SMD; Manufacturer: Various; Part Number: 5K11 0805 1%; Watt: 125mW; Package: RESC0805X65N; EDM-PN: *; Text2: *; Reutech PN: *; SAAB PN: *; DCE Part No: *
footprint RESC0805X65N (Chip Resistor, 0805, 2-Leads, Body 2.0x1.3mm, IPC Medium Density)
pins: 1, 2

## 5K23_0402
designator R?, comment value 5K23  Tol: 1%  Text1: 0402  (hidden comment: 5K23_R0402_1%)
Resistor Chip SMD; Manufacturer: Various; Part Number: 5K23 0402 1%; Watt: 63mW; Package: RESC0402X40N; EDM-PN: *; Text2: *; Reutech PN: *; SAAB PN: *; DCE Part No: *
footprint RESC0402X40N (Chip Resistor, 0402, 2-Leads, Body 1.1x0.5mm, IPC Medium Density)
pins: 1, 2

## 5K23_0603
designator R?, comment value 5K23  Tol: 1%  Text1: 0603  (hidden comment: 5K23_R0603_1%)
Resistor Chip SMD; Manufacturer: Various; Part Number: 5K23 0603 1%; Watt: 100mW; Package: RESC0603X60N; EDM-PN: *; Text2: *; Reutech PN: *; SAAB PN: *; DCE Part No: *
footprint RESC0603X60N (Chip Resistor, 0603, 2-Leads, Body 1.6x0.8mm, IPC Medium Density)
pins: 1, 2

## 5K23_0805
designator R?, comment value 5K23  Tol: 1%  Text1: 0805  (hidden comment: 5K23_R0805_1%)
Resistor Chip SMD; Manufacturer: Various; Part Number: 5K23 0805 1%; Watt: 125mW; Package: RESC0805X65N; EDM-PN: *; Text2: *; Reutech PN: *; SAAB PN: *; DCE Part No: *
footprint RESC0805X65N (Chip Resistor, 0805, 2-Leads, Body 2.0x1.3mm, IPC Medium Density)
pins: 1, 2

## 5K23_1206
designator R?, comment value 5K23  Tol: 1%  Text1: 1206  (hidden comment: 5K23_R1206_1%)
Resistor Chip SMD; Manufacturer: Various; Part Number: 5K23 1206 1%; Watt: 250mW; Package: RESC1206X71N; EDM-PN: *; Text2: *; Reutech PN: *; SAAB PN: *; DCE Part No: *
footprint RESC1206X71N (Chip Resistor, 1206, 2-Leads, Body 3.2x1.6mm, IPC Medium Density)
pins: 1, 2

## 5K62_0402
designator R?, comment value 5K62  Tol: 1%  Text1: 0402  (hidden comment: 5K62_R0402_1%)
Resistor Chip SMD; Manufacturer: Various; Part Number: 5K62 0402 1%; Watt: 63mW; Package: RESC0402X40N; EDM-PN: *; Text2: *; Reutech PN: *; SAAB PN: *; DCE Part No: *
footprint RESC0402X40N (Chip Resistor, 0402, 2-Leads, Body 1.1x0.5mm, IPC Medium Density)
pins: 1, 2

## 5K62_0603
designator R?, comment value 5K62  Tol: 1%  Text1: 0603  (hidden comment: 5K62_R0603_1%)
Resistor Chip SMD; Manufacturer: Various; Part Number: 5K62 0603 1%; Watt: 100mW; Package: RESC0603X60N; EDM-PN: *; Text2: *; Reutech PN: *; SAAB PN: *; DCE Part No: *
footprint RESC0603X60N (Chip Resistor, 0603, 2-Leads, Body 1.6x0.8mm, IPC Medium Density)
pins: 1, 2

## 5K62_0805
designator R?, comment value 5K62  Tol: 1%  Text1: 0805  (hidden comment: 5K62_R0805_1%)
Resistor Chip SMD; Manufacturer: Various; Part Number: 5K62 0805 1%; Watt: 125mW; Package: RESC0805X65N; EDM-PN: *; Text2: *; Reutech PN: *; SAAB PN: *; DCE Part No: *
footprint RESC0805X65N (Chip Resistor, 0805, 2-Leads, Body 2.0x1.3mm, IPC Medium Density)
pins: 1, 2

## 5K62_1206
designator R?, comment value 5K62  Tol: 1%  Text1: 1206  (hidden comment: 5K62_R1206_1%)
Resistor Chip SMD; Manufacturer: Various; Part Number: 5K62 1206 1%; Watt: 250mW; Package: RESC1206X71N; EDM-PN: *; Text2: *; Reutech PN: *; SAAB PN: *; DCE Part No: *
footprint RESC1206X71N (Chip Resistor, 1206, 2-Leads, Body 3.2x1.6mm, IPC Medium Density)
pins: 1, 2

## 5M1_0402
designator R?, comment value 5M1  Tol: 1%  Text1: 0402  (hidden comment: 5M1_R0402_1%)
Resistor Chip SMD; Manufacturer: Various; Part Number: 5M1 0402 1%; Watt: 63mW; Package: RESC0402X40N; EDM-PN: *; Text2: *; Reutech PN: *; SAAB PN: *; DCE Part No: *
footprint RESC0402X40N (Chip Resistor, 0402, 2-Leads, Body 1.1x0.5mm, IPC Medium Density)
pins: 1, 2

## 5M1_0603
designator R?, comment value 5M1  Tol: 1%  Text1: 0603  (hidden comment: 5M1_R0603_1%)
Resistor Chip SMD; Manufacturer: Various; Part Number: 5M1 0603 1%; Watt: 100mW; Package: RESC0603X60N; EDM-PN: *; Text2: *; Reutech PN: *; SAAB PN: *; DCE Part No: *
footprint RESC0603X60N (Chip Resistor, 0603, 2-Leads, Body 1.6x0.8mm, IPC Medium Density)
pins: 1, 2

## 5M1_0805
designator R?, comment value 5M1  Tol: 1%  Text1: 0805  (hidden comment: 5M1_R0805_1%)
Resistor Chip SMD; Manufacturer: Various; Part Number: 5M1 0805 1%; Watt: 125mW; Package: RESC0805X65N; EDM-PN: *; Text2: *; Reutech PN: *; SAAB PN: *; DCE Part No: *
footprint RESC0805X65N (Chip Resistor, 0805, 2-Leads, Body 2.0x1.3mm, IPC Medium Density)
pins: 1, 2

## 5M1_1206
designator R?, comment value 5M1  Tol: 1%  Text1: 1206  (hidden comment: 5M1_R1206_1%)
Resistor Chip SMD; Manufacturer: Various; Part Number: 5M1 1206 1%; Watt: 250mW; Package: RESC1206X71N; EDM-PN: *; Text2: *; Reutech PN: *; SAAB PN: *; DCE Part No: *
footprint RESC1206X71N (Chip Resistor, 1206, 2-Leads, Body 3.2x1.6mm, IPC Medium Density)
pins: 1, 2

## 5M_0402
designator R?, comment value 5M  Tol: 1%  Text1: 0402  (hidden comment: 5M_R0402_1%)
Resistor Chip SMD; Manufacturer: Various; Part Number: 5M 0402 1%; Watt: 63mW; Package: RESC0402X40N; EDM-PN: *; Text2: *; Reutech PN: *; SAAB PN: *; DCE Part No: *
footprint RESC0402X40N (Chip Resistor, 0402, 2-Leads, Body 1.1x0.5mm, IPC Medium Density)
pins: 1, 2

## 5M_0603
designator R?, comment value 5M  Tol: 1%  Text1: 0603  (hidden comment: 5M_R0603_1%)
Resistor Chip SMD; Manufacturer: Various; Part Number: 5M 0603 1%; Watt: 100mW; Package: RESC0603X60N; EDM-PN: *; Text2: *; Reutech PN: *; SAAB PN: *; DCE Part No: *
footprint RESC0603X60N (Chip Resistor, 0603, 2-Leads, Body 1.6x0.8mm, IPC Medium Density)
pins: 1, 2